# Altium footprint library connectors.PcbLib: 143 footprints (part 1 of 9)
Each footprint in its own frame and in the unit in brackets; x right, y up, seen from the top. Pads: shape width x height; smd on the part's side, far side on the other; paste and mask are expansions set on the pad; w line width, h text height; cw(c..) or ccw(c..) is an arc to the next point about the centre after c.
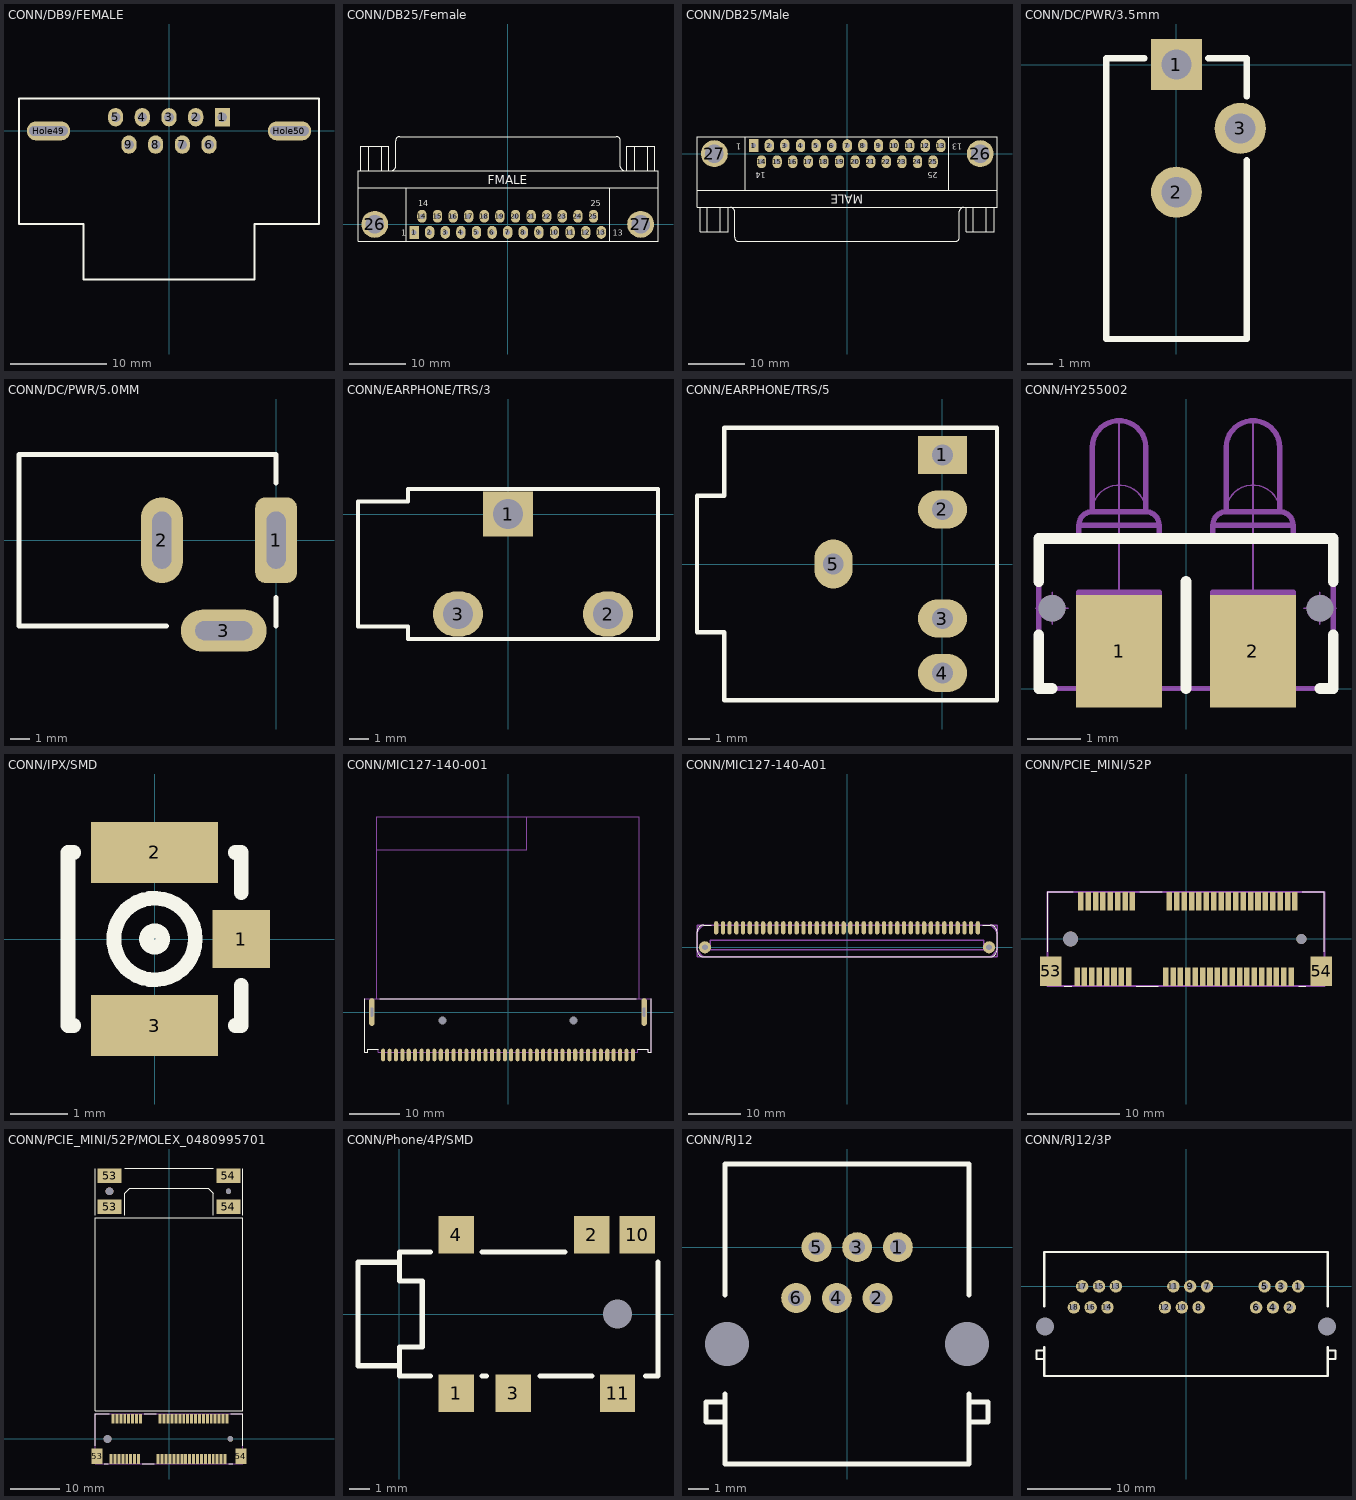
[diagram p0: the footprints below, top view; thin cyan lines are the x and y axes]

## CONN/DB9/FEMALE [mil]
pads (11):
  rect 62x75 hole 39.37: 1(218,56)
  oval 62x75 hole 39.37: 2(109,56) 3(0,56) 4(-109,56) 5(-218,56) 6(163.5,-56) 7(54.5,-56) 8(-54.5,-56) 9(-163.5,-56)
  oval 177.17x78.74 hole 39.37 slot 157.48 at 0 deg: Hole49(-492,0) Hole50(492,0)
Top Overlay:
  lines w8: -612.5,-381 -350,-381 -350,-606 350,-606 350,-381 612.5,-381 612.5,131.5 -612.5,131.5 -612.5,-381
3D body "User Library-DB9-Usa.step": height 493.05, standoff -171.32, extent -606.5,-595.47 606.5,125

## CONN/DB25/Female [mil] "LPT FMALE - D Subminiature; 25 Position; Right Angle; Pitch 1.385 mm"
height 509.06
pads (27):
  rect 65x90 hole 35: 1(-652.2,-55.91)
  oval 65x90 hole 35: 2(-543.5,-55.91) 3(-434.8,-55.91) 4(-326.1,-55.91) 5(-217.4,-55.91) 6(-108.7,-55.91) 7(0,-55.91) 8(108.7,-55.91) 9(217.4,-55.91) 10(326.1,-55.91) 11(434.8,-55.91) 12(543.5,-55.91) 13(652.2,-55.91) 14(-597.85,55.91) 15(-489.15,55.91) 16(-380.45,55.91) 17(-271.75,55.91) 18(-163.05,55.91) 19(-54.35,55.91) 20(54.35,55.91) 21(163.05,55.91) 22(271.75,55.91) 23(380.45,55.91) 24(489.15,55.91) 25(597.85,55.91)
  round 187.4 hole 128.35: 26(-926.22,0) 27(926.22,0)
Top Overlay:
  lines w7.87: -1043.15,255.91 1047.4,255.91 ; -808.7,374.21 ccw(c-808.7,401.57) -781.34,401.57 -781.34,582.68 ; -781.14,582.87 cw(c-753.78,582.87) -753.78,610.24 758.03,610.24 cw(c758.03,582.87) 785.39,582.87 ; -706.54,-118.11 -706.54,255.91 ; 710.79,-118.11 710.79,255.91 ; 785.59,582.68 785.59,401.57 ccw(c812.95,401.57) 812.95,374.21 ; -1043.15,-118.11 1047.4,-118.11 1047.4,374.02 -1043.15,374.02 -1043.15,-118.11
  lines w8: -1023,375.02 -1023,544.02 -828,544.02 -828,375.02 ; -968,375.02 -968,544.02 ; -878,375.02 -878,544.02 ; 830,375.02 830,544.02 1025,544.02 1025,375.02 ; 885,375.02 885,544.02 ; 975,375.02 975,544.02
  text "FMALE" at -140,279.02 h60
  text "1" at -743,-79.98 h40
  text "13" at 733,-79.98 h40
  text "14" at -624,125.02 h40
  text "25" at 578,125.02 h40
3D body "User Library-d-sub25 connector.step": height 497.05, standoff -178.15, extent -1044.09,-120 1044.09,687.09

## CONN/DB25/Male [mil] "LPT MALE D Subminiature; 25 Position; Right Angle; Pitch 1.385 mm"
height 509.06
pads (27):
  rect 65x90 hole 35: 1(-652.2,55.91)
  oval 65x90 hole 35: 2(-543.5,55.91) 3(-434.8,55.91) 4(-326.1,55.91) 5(-217.4,55.91) 6(-108.7,55.91) 7(0,55.91) 8(108.7,55.91) 9(217.4,55.91) 10(326.1,55.91) 11(434.8,55.91) 12(543.5,55.91) 13(652.21,55.91) 14(-597.85,-55.91) 15(-489.15,-55.91) 16(-380.45,-55.91) 17(-271.75,-55.91) 18(-163.05,-55.91) 19(-54.35,-55.91) 20(54.35,-55.91) 21(163.05,-55.91) 22(271.75,-55.91) 23(380.45,-55.91) 24(489.15,-55.91) 25(597.85,-55.91)
  round 187.4 hole 128.35: 26(926.22,0) 27(-926.22,0)
Top Overlay:
  lines w7.87: -1047.4,-255.91 1043.15,-255.91 ; -812.95,-374.21 cw(c-812.95,-401.57) -785.59,-401.57 -785.59,-582.68 ; -785.39,-582.87 ccw(c-758.03,-582.87) -758.03,-610.24 753.78,-610.24 ccw(c753.78,-582.87) 781.14,-582.87 ; -710.79,-255.91 -710.79,118.11 ; 706.54,-255.91 706.54,118.11 ; 781.34,-582.68 781.34,-401.57 cw(c808.7,-401.57) 808.7,-374.21 ; -1047.4,-374.02 -1047.4,118.11 1043.15,118.11 1043.15,-374.02 -1047.4,-374.02
  lines w8: -1025,-375.02 -1025,-544.02 -830,-544.02 -830,-375.02 ; -975,-544.02 -975,-375.02 ; -885,-544.02 -885,-375.02 ; 828,-375.02 828,-544.02 1023,-544.02 1023,-375.02 ; 878,-544.02 878,-375.02 ; 968,-544.02 968,-375.02
  text "25" at 630,-129.02 h40
  text "14" at -570,-129.02 h40
  text "13" at 800,70.98 h40
  text "1" at -740,70.98 h40
  text "MALE" at 110,-285 h60
3D body "SW3DPS-DB25RA_M-DEFAULT.STEP": height 500.6, standoff -176.56, extent -1052.56,-606.41 1052.56,118

## CONN/DC/PWR/3.5mm [mil]
pads (3):
  rect 80x80 hole 47.24: 1(0,0)
  round 80 hole 47.24: 2(0,-200) 3(100,-100)
Top Overlay:
  lines w10: -50,10 -110,10 -110,-430 110,-430 110,-150 ; 50,10 110,10 110,-50

## CONN/DC/PWR/5.0MM [mm]
pads (3):
  rrect50% 2.2x4.5 hole 1 slot 3 at 90 deg: 1(0,0)
  oval 2.2x4.5 hole 1 slot 3 at 90 deg: 2(-6,0)
  oval 4.5x2.2 hole 1 slot 3 at 0 deg: 3(-2.75,-4.75)
Top Overlay:
  lines w0.254: -5.75,-4.5 -13.5,-4.5 -13.5,4.5 0,4.5 0,3 ; 0,-4.5 0,-3
3D body "SW3dPS-dc range - dc connector[4840.2201].STEP": height 11.02, standoff -3.48, extent -13.576,-5.003 0.25,4.503

## CONN/EARPHONE/TRS/3 [mil]
pads (3):
  rect 100x90 hole 60: 1(0,0)
  oval 100x90 hole 60: 2(200,-200) 3(-100,-200)
Top Overlay:
  lines w8: -300,-225 -300,25 -200,25 -200,50 300,50 300,-250 -200,-250 -200,-225 -300,-225

## CONN/EARPHONE/TRS/5 [mil]
pads (5):
  rect 90x70 / inner round 62 / far side rect 90x70 hole 38: 1(0,200)
  oval 90x70 / inner round 62 / far side oval 90x70 hole 38: 2(0,100) 3(0,-100) 4(0,-200)
  oval 70x90 / inner round 62 / far side oval 70x90 hole 38: 5(-200,0)
Top Overlay:
  lines w8: -450,-125 -400,-125 -400,-250 100,-250 100,250 -400,250 -400,125 -450,125 -450,-125

## CONN/HY255002 [mm]
pads (4):
  rect 1.6x2.1 smd: 1(-1.25,0.7) 2(1.25,0.7)
  round 0 hole 0.5 unplated: HOLE(-2.5,1.5) HOLE(2.5,1.5)
Top Overlay:
  lines w0.2: -2.75,1 -2.75,0 -2.5,0 ; -2.75,2 -2.75,2.8 2.75,2.8 2.75,2 ; 0,0 0,2 ; 2.5,0 2.75,0 2.75,1
Mechanical 1:
  circle w0.1: c-2.5,1.5 r0.2
  circle w0.1: c2.5,1.5 r0.2
  lines w0.03: -2.8,1.5 -2.2,1.5 ; -2.5,1.2 -2.5,1.8 ; -1.75,3.3 cw(c-1.25,3.3) -0.75,3.3 ; -1.25,0 -1.25,5 ; 0.75,3.3 cw(c1.25,3.3) 1.75,3.3 ; 1.25,0 1.25,5 ; 2.2,1.5 2.8,1.5 ; 2.5,1.2 2.5,1.8
  lines w0.1: -2,0 -2,1.8 -0.5,1.8 -0.5,0 ; -2,2.8 -2,3.05 ; -0.5,2.8 -0.5,3.05 ; 0.5,0 0.5,1.8 2,1.8 2,0 ; 0.5,2.8 0.5,3.05 ; 2,2.8 2,3.05 ; -2,3.05 cw(c-1.75,3.05) -1.75,3.3 ; -2,3.05 -0.5,3.05 ; -1.75,3.3 -0.75,3.3 ; -1.75,3.3 -1.75,4.5 cw(c-1.25,4.5) -0.75,4.5 -0.75,3.3 ; -1.75,3.3 -1.75,3.3 ; -0.75,3.3 cw(c-0.75,3.05) -0.5,3.05 ; -0.75,3.3 -0.75,3.3 ; 0.5,3.05 cw(c0.75,3.05) 0.75,3.3 ; 0.5,3.05 2,3.05 ; 0.75,3.3 0.75,3.3 ; 0.75,3.3 0.75,4.5 cw(c1.25,4.5) 1.75,4.5 1.75,3.3 ; 0.75,3.3 1.75,3.3 ; 1.75,3.3 cw(c1.75,3.05) 2,3.05 ; 1.75,3.3 1.75,3.3 ; -2.75,0 -2.75,2.8 2.75,2.8 2.75,0 -2.75,0
3D body "CONN-HY255002-2.STEP": height 2.7, standoff -0.7, extent -2.75,-0.05 2.75,5

## CONN/IPX/SMD [mm]
pads (3):
  rect 1x1 smd: 1(1.5,0)
  rect 2.2x1.05 smd: 2(0,1.5) 3(0,-1.5)
Top Overlay:
  circle w0.254: c0,0 r0.707
  circle w0.254: c0,0 r0.141
  lines w0.254: -1.4,-1.5 -1.5,-1.5 -1.5,1.5 -1.4,1.5 ; 1.4,-1.5 1.5,-1.5 1.5,-0.8 ; 1.4,1.5 1.5,1.5 1.5,0.8
3D body "User Library-1909763-1.step": height 1.25, standoff -0.03, extent -1.3,-1.5 1.55,1.5

## CONN/MIC127-140-001 [mm]
pads (44):
  oval 0.8x2.5 smd: 1(-24.765,-8.51) 2(-23.495,-8.51) 3(-22.225,-8.51) 4(-20.955,-8.51) 5(-19.685,-8.51) 6(-18.415,-8.51) 7(-17.145,-8.51) 8(-15.875,-8.51) 9(-14.605,-8.51) 10(-13.335,-8.51) 11(-12.065,-8.51) 12(-10.795,-8.51) 13(-9.525,-8.51) 14(-8.255,-8.51) 15(-6.985,-8.51) 16(-5.715,-8.51) 17(-4.445,-8.51) 18(-3.175,-8.51) 19(-1.905,-8.51) 20(-0.635,-8.51) 21(0.635,-8.51) 22(1.905,-8.51) 23(3.175,-8.51) 24(4.445,-8.51) 25(5.715,-8.51) 26(6.985,-8.51) 27(8.255,-8.51) 28(9.525,-8.51) 29(10.795,-8.51) 30(12.065,-8.51) 31(13.335,-8.51) 32(14.605,-8.51) 33(15.875,-8.51) 34(17.145,-8.51) 35(18.415,-8.51) 36(19.685,-8.51) 37(20.955,-8.51) 38(22.225,-8.51) 39(23.495,-8.51) 40(24.765,-8.51)
  oval 1.1x5.5 / inner oval 1.1x5.5 / far side oval 1.1x4 hole 0.5 slot 1.8 at 90 deg: HOLE(-27,0) HOLE(27,0)
  round 0 hole 1.6 unplated: HOLE(-13,-1.66) HOLE(13,-1.66)
Top Overlay:
  lines w0.2: -28.4,2.64 -28.4,-8 -27.8,-8 -27.8,-7.4 -25.7,-7.4 ; -25.4,2.64 25.4,2.64 ; 25.7,-7.4 27.8,-7.4 27.8,-8 28.4,-8 28.4,2.64
Mechanical 1:
  lines w0.2: -26,2.64 -26,38.74 26,38.74 26,2.64 ; -26,32.24 3.75,32.24 3.75,38.74 ; -28.4,-8 -28.4,2.64 28.4,2.64 28.4,-8 27.8,-8 27.8,-7.4 25.7,-7.4 25.7,-8 -25.7,-8 -25.7,-7.4 -27.8,-7.4 -27.8,-8 -28.4,-8
3D body "micro bit v1.step": height 11.29, standoff 0.69, extent -26,-4.01 26,38.74
3D body "CONN-MIC127-140-001.STEP": height 10.2, standoff -2, extent -28.4,-8 28.4,2.6

## CONN/MIC127-140-A01 [mm]
pads (42):
  oval 0.8x2.5 smd: 1(24.765,3.69) 2(23.495,3.69) 3(22.225,3.69) 4(20.955,3.69) 5(19.685,3.69) 6(18.415,3.69) 7(17.145,3.69) 8(15.875,3.69) 9(14.605,3.69) 10(13.335,3.69) 11(12.065,3.69) 12(10.795,3.69) 13(9.525,3.69) 14(8.255,3.69) 15(6.985,3.69) 16(5.715,3.69) 17(4.445,3.69) 18(3.175,3.69) 19(1.905,3.69) 20(0.635,3.69) 21(-0.635,3.69) 22(-1.905,3.69) 23(-3.175,3.69) 24(-4.445,3.69) 25(-5.715,3.69) 26(-6.985,3.69) 27(-8.255,3.69) 28(-9.525,3.69) 29(-10.795,3.69) 30(-12.065,3.69) 31(-13.335,3.69) 32(-14.605,3.69) 33(-15.875,3.69) 34(-17.145,3.69) 35(-18.415,3.69) 36(-19.685,3.69) 37(-20.955,3.69) 38(-22.225,3.69) 39(-23.495,3.69) 40(-24.765,3.69)
  round 2.3 hole 1.1: HOLE(-26.9,0) HOLE(26.9,0)
Top Overlay:
  lines w0.2: -25.685,4.2 -27.13,4.2 ccw(c-27.13,2.93) -28.4,2.93 -28.4,-0.53 ccw(c-27.13,-0.53) -27.13,-1.8 27.13,-1.8 ccw(c27.13,-0.53) 28.4,-0.53 28.4,2.93 ccw(c27.13,2.93) 27.13,4.2 25.685,4.2
Mechanical 1:
  lines w0.254: -28.4,0.105 ccw(c-26.495,0.105) -26.495,-1.8 ; -28.4,2.295 cw(c-26.495,2.295) -26.495,4.2 ; 26.495,-1.8 ccw(c26.495,0.105) 28.4,0.105 ; 26.495,4.2 cw(c26.495,2.295) 28.4,2.295 ; -28.4,-1.8 28.4,-1.8 28.4,4.2 -28.4,4.2 -28.4,-1.8 ; -25.9,-0.46 -25.9,1.3 25.9,1.3 25.9,-0.46 -25.9,-0.46
3D body "micro bit v1.step": height 46.03, standoff 3.28, extent -26,-5.274 26,5.326
3D body: height 10.6, standoff 0, extent -28.4,-1.8 0,4.2
3D body: height 10.6, standoff 0, extent 0,-1.8 28.4,4.2

## CONN/PCIE_MINI/52P [mm]
pads (56):
  rect 0.6x2 smd: 1(-11.8,-4.1) 2(-11.4,4.1) 3(-11,-4.1) 4(-10.6,4.1) 5(-10.2,-4.1) 6(-9.8,4.1) 7(-9.4,-4.1) 8(-9,4.1) 9(-8.6,-4.1) 10(-8.2,4.1) 11(-7.8,-4.1) 12(-7.4,4.1) 13(-7,-4.1) 14(-6.6,4.1) 15(-6.2,-4.1) 16(-5.8,4.1) 17(-2.2,-4.1) 18(-1.8,4.1) 19(-1.4,-4.1) 20(-1,4.1) 21(-0.6,-4.1) 22(-0.2,4.1) 23(0.2,-4.1) 24(0.6,4.1) 25(1,-4.1) 26(1.4,4.1) 27(1.8,-4.1) 28(2.2,4.1) 29(2.6,-4.1) 30(3,4.1) 31(3.4,-4.1) 32(3.8,4.1) 33(4.2,-4.1) 34(4.6,4.1) 35(5,-4.1) 36(5.4,4.1) 37(5.8,-4.1) 38(6.2,4.1) 39(6.6,-4.1) 40(7,4.1) 41(7.4,-4.1) 42(7.8,4.1) 43(8.2,-4.1) 44(8.6,4.1) 45(9,-4.1) 46(9.4,4.1) 47(9.8,-4.1) 48(10.2,4.1) 49(10.6,-4.1) 50(11,4.1) 51(11.4,-4.1) 52(11.8,4.1)
  rect 2.3x3.2 smd: 53(-14.65,-3.5) 54(14.65,-3.5)
  round 1.6 hole 1.6 unplated: HOLE(-12.5,0)
  round 1.1 hole 1.1 unplated: HOLE(12.5,0)
Top Overlay:
  lines w0.1: -15,-1.4 -15,5.1 -12.2,5.1 ; -13.2,-5.1 -12.4,-5.1 ; -5.4,-5.1 -3,-5.1 ; -5,5.1 -2.6,5.1 ; 12.2,-5.1 13,-5.1 ; 12.6,5.1 15,5.1 15,-1.4
Mechanical 13:
  lines w0.2: -15,-5.1 15,-5.1 15,5.1 -15,5.1 -15,-5.1
3D body "c-1775838-2-g-3d.stp": height 5.58, standoff -0.67, extent -14.95,-4.5 14.95,4.58

## CONN/PCIE_MINI/52P/MOLEX_0480995701 [mm]
pads (62):
  rect 0.6x2 smd: 1(-11.8,-4.1) 2(-11.4,4.1) 3(-11,-4.1) 4(-10.6,4.1) 5(-10.2,-4.1) 6(-9.8,4.1) 7(-9.4,-4.1) 8(-9,4.1) 9(-8.6,-4.1) 10(-8.2,4.1) 11(-7.8,-4.1) 12(-7.4,4.1) 13(-7,-4.1) 14(-6.6,4.1) 15(-6.2,-4.1) 16(-5.8,4.1) 17(-2.2,-4.1) 18(-1.8,4.1) 19(-1.4,-4.1) 20(-1,4.1) 21(-0.6,-4.1) 22(-0.2,4.1) 23(0.2,-4.1) 24(0.6,4.1) 25(1,-4.1) 26(1.4,4.1) 27(1.8,-4.1) 28(2.2,4.1) 29(2.6,-4.1) 30(3,4.1) 31(3.4,-4.1) 32(3.8,4.1) 33(4.2,-4.1) 34(4.6,4.1) 35(5,-4.1) 36(5.4,4.1) 37(5.8,-4.1) 38(6.2,4.1) 39(6.6,-4.1) 40(7,4.1) 41(7.4,-4.1) 42(7.8,4.1) 43(8.2,-4.1) 44(8.6,4.1) 45(9,-4.1) 46(9.4,4.1) 47(9.8,-4.1) 48(10.2,4.1) 49(10.6,-4.1) 50(11,4.1) 51(11.4,-4.1) 52(11.8,4.1)
  rect 2.3x3.2 smd: 53(-14.65,-3.5) 54(14.65,-3.5)
  rect 4.8x3 smd: 53(-12.1,47.25) 53(-12.1,53.55) 54(12.1,47.25) 54(12.1,53.55)
  round 1.6 hole 1.6 unplated: HOLE(-12.5,0) HOLE(-12.1,50.4)
  round 1.1 hole 1.1 unplated: HOLE(12.1,50.4) HOLE(12.5,0)
Top Overlay:
  lines w0.254: -15,-1.4 -15,5.1 -12.2,5.1 ; -15,45.5 -15,55 ; -13.2,-5.1 -12.4,-5.1 ; -9,45.5 -9,50 -8,51 8,51 9,50 9,45.5 ; -9,55.05 9,55.05 ; -5.4,-5.1 -3,-5.1 ; -5,5.1 -2.6,5.1 ; 12.2,-5.1 13,-5.1 ; 12.6,5.1 15,5.1 15,-1.4 ; 15,45.5 15,55 ; -15,5.75 15,5.75 15,45 -15,45 -15,5.75
Mechanical 13:
  lines w0.2: -15,-5.1 15,-5.1 15,5.1 -15,5.1 -15,-5.1
3D body "c-1775838-2-g-3d.stp": height 5.58, standoff -0.67, extent -14.95,-4.5 14.95,4.58

## CONN/Phone/4P/SMD [mm]
pads (7):
  rect 1.7x1.8 smd: 1(2.75,-3.825) 2(9.3,3.825) 3(5.5,-3.825) 4(2.75,3.825) 10(11.5,3.825) 11(10.55,-3.825)
  round 0 hole 1.4 unplated: HOLE(10.55,0)
Top Overlay:
  lines w0.254: 0,-2.5 -2,-2.5 -2,2.5 0,2.5 ; 1.5,-3 0,-3 0,-1.6 1.1,-1.6 1.1,1.6 0,1.6 0,3 1.5,3 ; 4,-3 4.2,-3 ; 4,3 8,3 ; 6.8,-3 9.3,-3 ; 11.9,-3 12.5,-3 12.5,2.5
3D body: height 3.95, standoff 0, extent 0,-3 12.5,3

## CONN/RJ12 [mm]
pads (8):
  round 1.5 hole 0.8: 1(2.54,0) 2(1.524,-2.54) 3(0.508,0) 4(-0.508,-2.54) 5(-1.524,0) 6(-2.54,-2.54)
  round 0 hole 2.2 unplated: HOLE(-6,-4.84) HOLE(6,-4.84)
Top Overlay:
  lines w0.254: -6.1,-8.75 -7.05,-8.75 -7.05,-7.75 -6.1,-7.75 ; -6.1,-7.35 -6.1,-10.84 6.1,-10.84 6.1,-7.35 ; -6.1,-2.4 -6.1,4.16 6.1,4.16 6.1,-2.4 ; 6.1,-8.75 7.05,-8.75 7.05,-7.75 6.1,-7.75
3D body: height 13.5, standoff 3, extent -7.05,-8.75 -6.1,-7.75
3D body: height 13.5, standoff 3, extent 6.1,-8.75 7.05,-7.75
3D body: height 15, standoff 0, extent -6.1,-10.84 6.1,4.16

## CONN/RJ12/3P [mm]
pads (20):
  round 1.5 hole 0.8: 1(13.54,0) 2(12.524,-2.54) 3(11.508,0) 4(10.492,-2.54) 5(9.476,0) 6(8.46,-2.54) 7(2.54,0) 8(1.524,-2.54) 9(0.508,0) 10(-0.508,-2.54) 11(-1.524,0) 12(-2.54,-2.54) 13(-8.46,0) 14(-9.476,-2.54) 15(-10.492,0) 16(-11.508,-2.54) 17(-12.524,0) 18(-13.54,-2.54)
  round 0 hole 2.2 unplated: HOLE(-17,-4.84) HOLE(17,-4.84)
Top Overlay:
  lines w0.254: -17.1,-8.75 -18.05,-8.75 -18.05,-7.75 -17.1,-7.75 ; -17.1,-7.35 -17.1,-10.84 17.1,-10.84 17.1,-7.35 ; -17.1,-2.4 -17.1,4.16 17.1,4.16 17.1,-2.4 ; 17.1,-8.75 18.05,-8.75 18.05,-7.75 17.1,-7.75
3D body: height 15, standoff 0, extent -17.1,-10.84 17.1,4.16
3D body: height 13.5, standoff 3, extent -18.05,-8.75 -17.1,-7.75
3D body: height 13.5, standoff 3, extent 17.1,-8.75 18.05,-7.75